# Altium schematic symbol library accessoryidk.SchLib: 18 symbols
Pins are listed as number, name and electrical type; pins without a type are passive.

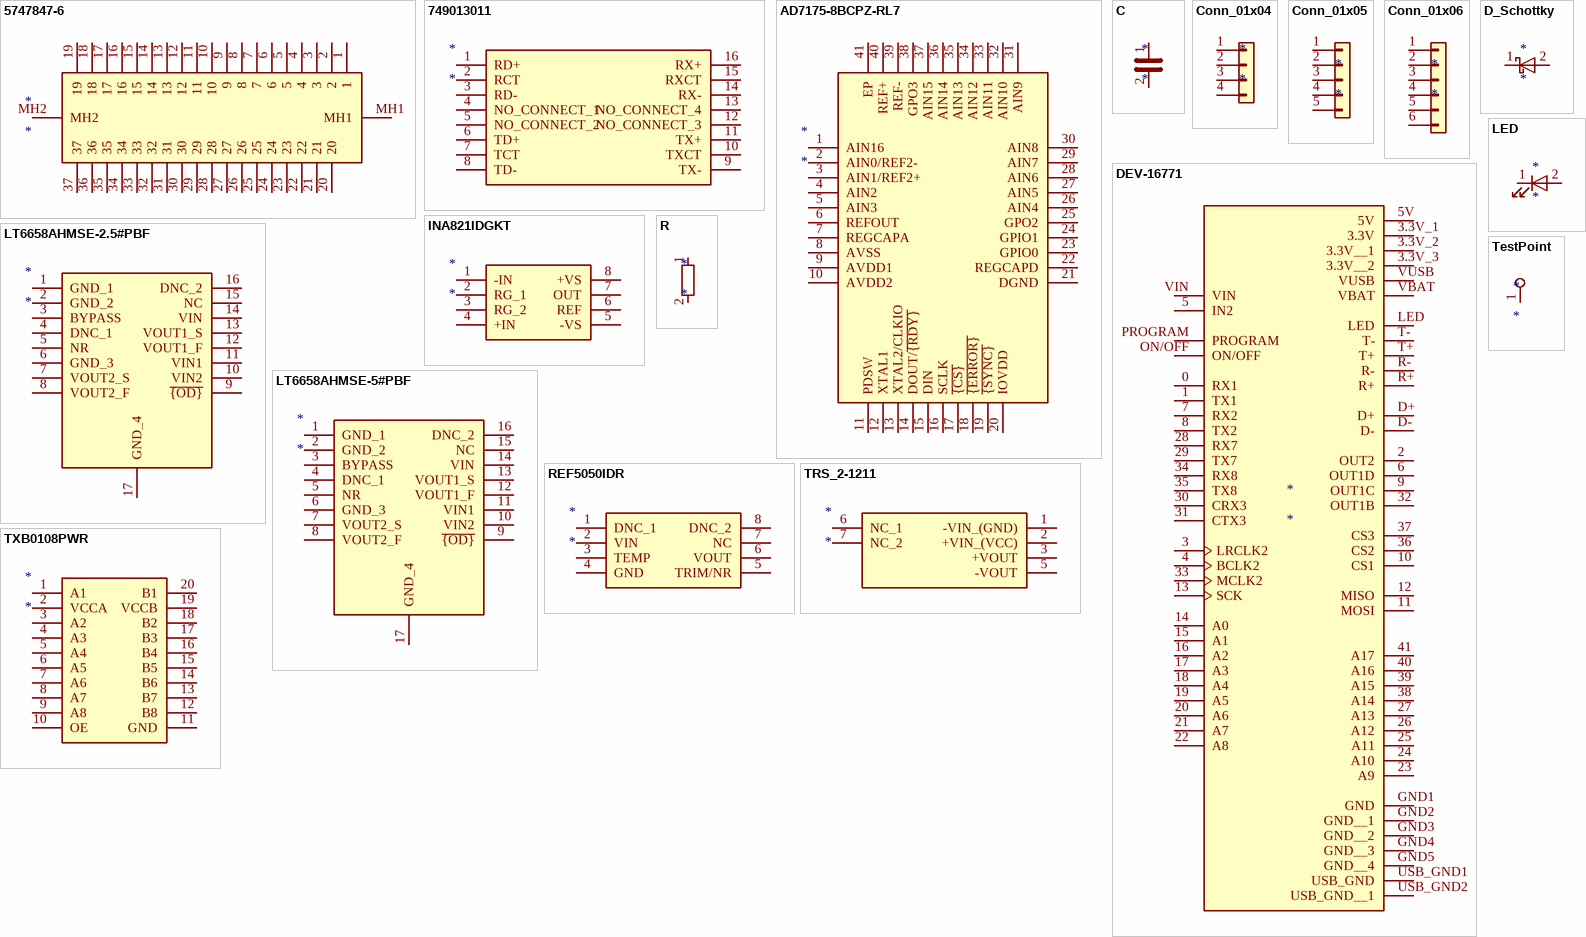
[diagram p0: symbols 5747847-6 to TXB0108PWR]

## 5747847-6
designator *
pins: 1, 2, 3, 4, 5, 6, 7, 8, 9, 10, 11, 12, 13, 14, 15, 16, 17, 18, 19, 20, 21, 22, 23, 24, 25, 26, 27, 28, 29, 30, 31, 32, 33, 34, 35, 36, 37, MH1, MH2

## 749013011
designator *
pins: 1 RD+, 2 RCT, 3 RD-, 4 NO_CONNECT_1, 5 NO_CONNECT_2, 6 TD+, 7 TCT, 8 TD-, 9 TX-, 10 TXCT, 11 TX+, 12 NO_CONNECT_3, 13 NO_CONNECT_4, 14 RX-, 15 RXCT, 16 RX+

## AD7175-8BCPZ-RL7
designator *
pins: 1 AIN16, 2 AIN0/REF2-, 3 AIN1/REF2+, 4 AIN2, 5 AIN3, 6 REFOUT, 7 REGCAPA, 8 AVSS, 9 AVDD1, 10 AVDD2, 11 PDSW, 12 XTAL1, 13 XTAL2/CLKIO, 14 DOUT/~{{RDY}}, 15 DIN, 16 SCLK, 17 ~{{CS}}, 18 ~{{ERROR}}, 19 ~{{SYNC}}, 20 IOVDD, 21 DGND, 22 REGCAPD, 23 GPIO0, 24 GPIO1, 25 GPO2, 26 AIN4, 27 AIN5, 28 AIN6, 29 AIN7, 30 AIN8, 31 AIN9, 32 AIN10, 33 AIN11, 34 AIN12, 35 AIN13, 36 AIN14, 37 AIN15, 38 GPO3, 39 REF-, 40 REF+, 41 EP

## C
designator *
pins: 1, 2

## Conn_01x04
designator *
pins: 1 Pin_1, 2 Pin_2, 3 Pin_3, 4 Pin_4

## Conn_01x05
designator *
pins: 1 Pin_1, 2 Pin_2, 3 Pin_3, 4 Pin_4, 5 Pin_5

## Conn_01x06
designator *
pins: 1 Pin_1, 2 Pin_2, 3 Pin_3, 4 Pin_4, 5 Pin_5, 6 Pin_6

## D_Schottky
designator *
pins: 1 K, 2 A

## DEV-16771
designator *
pins: 0 RX1, 1 TX1, 2 OUT2, 3 LRCLK2, 3.3V_1 3.3V, 3.3V_2 3.3V__1, 3.3V_3 3.3V__2, 4 BCLK2, 5 IN2, 5V, 6 OUT1D, 7 RX2, 8 TX2, 9 OUT1C, 10 CS1, 11 MOSI, 12 MISO, 13 SCK, 14 A0, 15 A1, 16 A2, 17 A3, 18 A4, 19 A5, 20 A6, 21 A7, 22 A8, 23 A9, 24 A10, 25 A11, 26 A12, 27 A13, 28 RX7, 29 TX7, 30 CRX3, 31 CTX3, 32 OUT1B, 33 MCLK2, 34 RX8, 35 TX8, 36 CS2, 37 CS3, 38 A14, 39 A15, 40 A16, 41 A17, D+, D-, GND1 GND, GND2 GND__1, GND3 GND__2, GND4 GND__3, GND5 GND__4, LED, ON/OFF, PROGRAM, R+, R-, T+, T-, USB_GND1 USB_GND, USB_GND2 USB_GND__1, VBAT, VIN, VUSB

## INA821IDGKT
designator *
pins: 1 -IN, 2 RG_1, 3 RG_2, 4 +IN, 5 -VS, 6 REF, 7 OUT, 8 +VS

## LED
designator *
pins: 1 K, 2 A

## LT6658AHMSE-2.5#PBF
designator *
pins: 1 GND_1, 2 GND_2, 3 BYPASS, 4 DNC_1, 5 NR, 6 GND_3, 7 VOUT2_S, 8 VOUT2_F, 9 ~{{OD}}, 10 VIN2, 11 VIN1, 12 VOUT1_F, 13 VOUT1_S, 14 VIN, 15 NC, 16 DNC_2, 17 GND_4

## LT6658AHMSE-5#PBF
designator *
pins: 1 GND_1, 2 GND_2, 3 BYPASS, 4 DNC_1, 5 NR, 6 GND_3, 7 VOUT2_S, 8 VOUT2_F, 9 ~{{OD}}, 10 VIN2, 11 VIN1, 12 VOUT1_F, 13 VOUT1_S, 14 VIN, 15 NC, 16 DNC_2, 17 GND_4

## R
designator *
pins: 1, 2

## REF5050IDR
designator *
pins: 1 DNC_1, 2 VIN, 3 TEMP, 4 GND, 5 TRIM/NR, 6 VOUT, 7 NC, 8 DNC_2

## TestPoint
designator *
pins: 1

## TRS_2-1211
designator *
pins: 1 -VIN_(GND), 2 +VIN_(VCC), 3 +VOUT, 5 -VOUT, 6 NC_1, 7 NC_2

## TXB0108PWR
designator *
pins: 1 A1, 2 VCCA, 3 A2, 4 A3, 5 A4, 6 A5, 7 A6, 8 A7, 9 A8, 10 OE, 11 GND, 12 B8, 13 B7, 14 B6, 15 B5, 16 B4, 17 B3, 18 B2, 19 VCCB, 20 B1